# EAGLE library part ONION-OMEGA (library 1484203861886-plan44)
Onion Omega
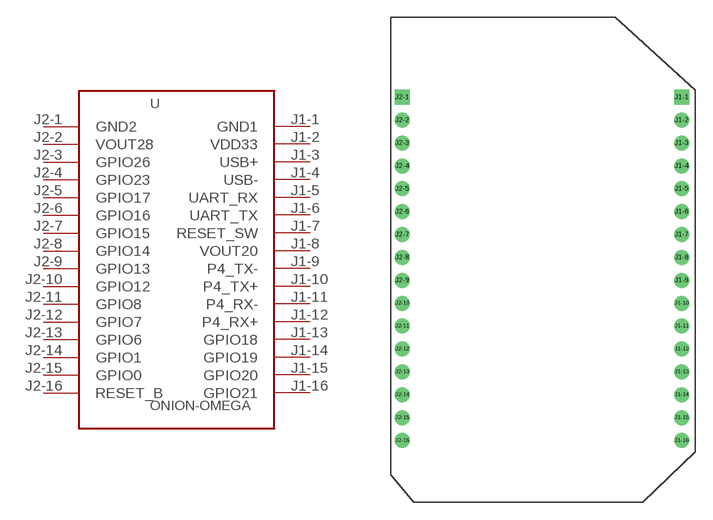
[diagram p0: symbol with the pads of ONION-2MM-2X16; footprint ONION-2MM-2X16]

Designator prefix U

## ONION-OMEGA  [ONION-2MM-2X16]
J1-1  GND1
J1-2  VDD33
J1-3  USB+
J1-4  USB-
J1-5  UART_RX
J1-6  UART_TX
J1-7  RESET_SW
J1-8  VOUT20
J1-9  P4_TX-
J1-10  P4_TX+
J1-11  P4_RX-
J1-12  P4_RX+
J1-13  GPIO18
J1-14  GPIO19
J1-15  GPIO20
J1-16  GPIO21
J2-1  GND2
J2-2  VOUT28
J2-3  GPIO26
J2-4  GPIO23
J2-5  GPIO17
J2-6  GPIO16
J2-7  GPIO15
J2-8  GPIO14
J2-9  GPIO13
J2-10  GPIO12
J2-11  GPIO8
J2-12  GPIO7
J2-13  GPIO6
J2-14  GPIO1
J2-15  GPIO0
J2-16  RESET_B

## Footprint ONION-2MM-2X16 (pad centres in mm)
Footprint für Onion Omega
drill 0.8 square: J1-1 12.4,14; J2-1 -12,14
drill 0.8: J1-2 12.4,12; J1-3 12.4,10; J1-4 12.4,8; J1-5 12.4,6; J1-6 12.4,4; J1-7 12.4,2; J1-8 12.4,0; J1-9 12.4,-2; J1-10 12.4,-4; J1-11 12.4,-6; J1-12 12.4,-8; J1-13 12.4,-10; J1-14 12.4,-12; J1-15 12.4,-14; J1-16 12.4,-16; J2-2 -12,12; J2-3 -12,10; J2-4 -12,8; J2-5 -12,6; J2-6 -12,4; J2-7 -12,2; J2-8 -12,0; J2-9 -12,-2; J2-10 -12,-4; J2-11 -12,-6; J2-12 -12,-8; J2-13 -12,-10; J2-14 -12,-12; J2-15 -12,-14; J2-16 -12,-16